# Altium footprint library Wireless_Shell.PcbLib: 1 footprints
Each footprint in its own frame and in the unit in brackets; x right, y up, seen from the top. Pads: shape width x height; smd on the part's side, far side on the other; paste and mask are expansions set on the pad; w line width, h text height; cw(c..) or ccw(c..) is an arc to the next point about the centre after c.
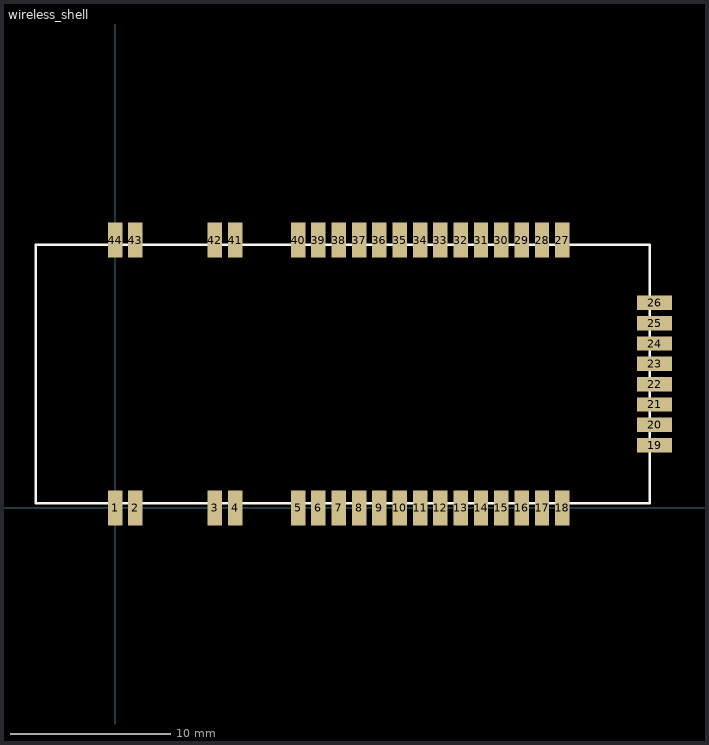
[diagram p0: the footprint, top view; thin cyan lines are the x and y axes]

## wireless_shell [mm]
pads (44):
  rect 0.9x2.2 smd: 1(0,0) 2(1.27,0) 3(6.223,0) 4(7.493,0) 5(11.43,0) 6(12.7,0) 7(13.97,0) 8(15.24,0) 9(16.51,0) 10(17.78,0) 11(19.05,0) 12(20.32,0) 13(21.59,0) 14(22.86,0) 15(24.13,0) 16(25.4,0) 17(26.67,0) 18(27.94,0) 27(27.94,16.729) 28(26.67,16.729) 29(25.4,16.729) 30(24.13,16.729) 31(22.86,16.729) 32(21.59,16.729) 33(20.32,16.729) 34(19.05,16.729) 35(17.78,16.729) 36(16.51,16.729) 37(15.24,16.729) 38(13.97,16.729) 39(12.7,16.729) 40(11.43,16.729) 41(7.493,16.729) 42(6.223,16.729) 43(1.27,16.729) 44(0,16.729)
  rect 2.2x0.9 smd: 19(33.701,3.919) 20(33.701,5.189) 21(33.701,6.459) 22(33.701,7.729) 23(33.701,8.999) 24(33.701,10.269) 25(33.701,11.539) 26(33.701,12.809)
Top Overlay:
  lines w0.152: -4.953,0.3 -4.953,16.429 33.401,16.429 33.401,0.3 -4.953,0.3